# Altium integrated library Altium_WE-HCF_rev18a.IntLib: 50 symbols
Pins are listed as number, name and electrical type; pins without a type are passive.

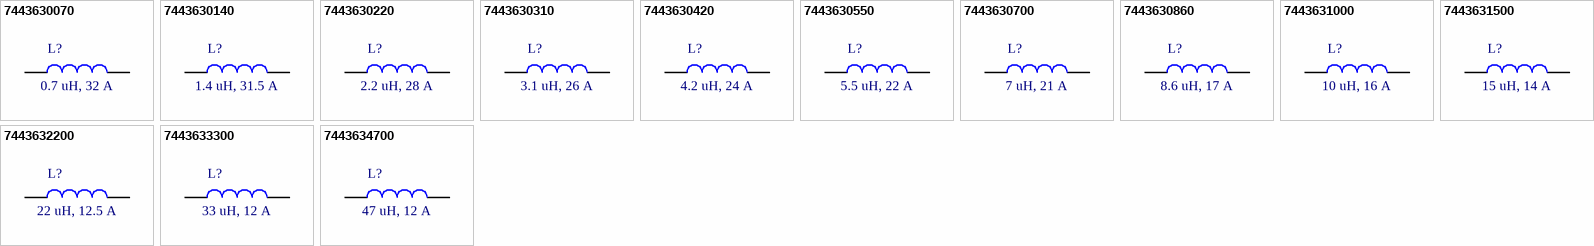
[diagram p0: symbols 7443630070 to 7443634700]

## 7443630070
designator L?, comment 0.7 uH, 32 A
SMT High Current Inductor WE-HCF, size 2013, 0.7 uH, 32 A; Part Number: 7443630070; Rated Current: 32 A; Inductance: 0.7 uH; DC Resistance max.: 0.91 mOhm; Self Resonant Frequency: 65 MHz; Saturation Current: 75 A; ComponentLink1Description: Manufacturer; ComponentLink1URL: http://www.we-online.de; ComponentLink2Description: Datasheet; ComponentLink2URL: https://katalog.we-online.de/pbs/datasheet/7443630070.pdf; Published Date: November 2018; Publisher: Wurth Elektronik; Size: 2013; Operating Temperature: -40 to 125 degC; Mounting Technology: SMT; Packaging: Tape and Reel
footprint WE-HCF_2013
pins: 1, 2

## 7443630140
designator L?, comment 1.4 uH, 31.5 A
SMT High Current Inductor WE-HCF, size 2013, 1.4 uH, 31.5 A; Part Number: 7443630140; Rated Current: 31.5 A; Inductance: 1.4 uH; DC Resistance max.: 1.19 mOhm; Self Resonant Frequency: 52 MHz; Saturation Current: 60 A; ComponentLink1Description: Manufacturer; ComponentLink1URL: http://www.we-online.de; ComponentLink2Description: Datasheet; ComponentLink2URL: https://katalog.we-online.de/pbs/datasheet/7443630140.pdf; Published Date: November 2018; Publisher: Wurth Elektronik; Size: 2013; Operating Temperature: -40 to 125 degC; Mounting Technology: SMT; Packaging: Tape and Reel
footprint WE-HCF_2013
pins: 1, 2

## 7443630220
designator L?, comment 2.2 uH, 28 A
SMT High Current Inductor WE-HCF, size 2013, 2.2 uH, 28 A; Part Number: 7443630220; Rated Current: 28 A; Inductance: 2.2 uH; DC Resistance max.: 1.65 mOhm; Self Resonant Frequency: 32 MHz; Saturation Current: 52 A; ComponentLink1Description: Manufacturer; ComponentLink1URL: http://www.we-online.de; ComponentLink2Description: Datasheet; ComponentLink2URL: https://katalog.we-online.de/pbs/datasheet/7443630220.pdf; Published Date: November 2018; Publisher: Wurth Elektronik; Size: 2013; Operating Temperature: -40 to 125 degC; Mounting Technology: SMT; Packaging: Tape and Reel
footprint WE-HCF_2013
pins: 1, 2

## 7443630310
designator L?, comment 3.1 uH, 26 A
SMT High Current Inductor WE-HCF, size 2013, 3.1 uH, 26 A; Part Number: 7443630310; Rated Current: 26 A; Inductance: 3.1 uH; DC Resistance max.: 2.3 mOhm; Self Resonant Frequency: 29 MHz; Saturation Current: 45 A; ComponentLink1Description: Manufacturer; ComponentLink1URL: http://www.we-online.de; ComponentLink2Description: Datasheet; ComponentLink2URL: https://katalog.we-online.de/pbs/datasheet/7443630310.pdf; Published Date: November 2018; Publisher: Wurth Elektronik; Size: 2013; Operating Temperature: -40 to 125 degC; Mounting Technology: SMT; Packaging: Tape and Reel
footprint WE-HCF_2013
pins: 1, 2

## 7443630420
designator L?, comment 4.2 uH, 24 A
SMT High Current Inductor WE-HCF, size 2013, 4.2 uH, 24 A; Part Number: 7443630420; Rated Current: 24 A; Inductance: 4.2 uH; DC Resistance max.: 3.34 mOhm; Self Resonant Frequency: 24 MHz; Saturation Current: 38 A; ComponentLink1Description: Manufacturer; ComponentLink1URL: http://www.we-online.de; ComponentLink2Description: Datasheet; ComponentLink2URL: https://katalog.we-online.de/pbs/datasheet/7443630420.pdf; Published Date: November 2018; Publisher: Wurth Elektronik; Size: 2013; Operating Temperature: -40 to 125 degC; Mounting Technology: SMT; Packaging: Tape and Reel
footprint WE-HCF_2013
pins: 1, 2

## 7443630550
designator L?, comment 5.5 uH, 22 A
SMT High Current Inductor WE-HCF, size 2013, 5.5 uH, 22 A; Part Number: 7443630550; Rated Current: 22 A; Inductance: 5.5 uH; DC Resistance max.: 4.4 mOhm; Self Resonant Frequency: 21 MHz; Saturation Current: 33 A; ComponentLink1Description: Manufacturer; ComponentLink1URL: http://www.we-online.de; ComponentLink2Description: Datasheet; ComponentLink2URL: https://katalog.we-online.de/pbs/datasheet/7443630550.pdf; Published Date: November 2018; Publisher: Wurth Elektronik; Size: 2013; Operating Temperature: -40 to 125 degC; Mounting Technology: SMT; Packaging: Tape and Reel
footprint WE-HCF_2013
pins: 1, 2

## 7443630700
designator L?, comment 7 uH, 21 A
SMT High Current Inductor WE-HCF, size 2013, 7 uH, 21 A; Part Number: 7443630700; Rated Current: 21 A; Inductance: 7 uH; DC Resistance max.: 6.17 mOhm; Self Resonant Frequency: 18 MHz; Saturation Current: 30 A; ComponentLink1Description: Manufacturer; ComponentLink1URL: http://www.we-online.de; ComponentLink2Description: Datasheet; ComponentLink2URL: https://katalog.we-online.de/pbs/datasheet/7443630700.pdf; Published Date: November 2018; Publisher: Wurth Elektronik; Size: 2013; Operating Temperature: -40 to 125 degC; Mounting Technology: SMT; Packaging: Tape and Reel
footprint WE-HCF_2013
pins: 1, 2

## 7443630860
designator L?, comment 8.6 uH, 17 A
SMT High Current Inductor WE-HCF, size 2013, 8.6 uH, 17 A; Part Number: 7443630860; Rated Current: 17 A; Inductance: 8.6 uH; DC Resistance max.: 7.91 mOhm; Self Resonant Frequency: 14 MHz; Saturation Current: 25 A; ComponentLink1Description: Manufacturer; ComponentLink1URL: http://www.we-online.de; ComponentLink2Description: Datasheet; ComponentLink2URL: https://katalog.we-online.de/pbs/datasheet/7443630860.pdf; Published Date: November 2018; Publisher: Wurth Elektronik; Size: 2013; Operating Temperature: -40 to 125 degC; Mounting Technology: SMT; Packaging: Tape and Reel
footprint WE-HCF_2013
pins: 1, 2

## 7443631000
designator L?, comment 10 uH, 16 A
SMT High Current Inductor WE-HCF, size 2013, 10 uH, 16 A; Part Number: 7443631000; Rated Current: 16 A; Inductance: 10 uH; DC Resistance max.: 8.76 mOhm; Self Resonant Frequency: 13 MHz; Saturation Current: 23 A; ComponentLink1Description: Manufacturer; ComponentLink1URL: http://www.we-online.de; ComponentLink2Description: Datasheet; ComponentLink2URL: https://katalog.we-online.de/pbs/datasheet/7443631000.pdf; Published Date: November 2018; Publisher: Wurth Elektronik; Size: 2013; Operating Temperature: -40 to 125 degC; Mounting Technology: SMT; Packaging: Tape and Reel
footprint WE-HCF_2013
pins: 1, 2

## 7443631500
designator L?, comment 15 uH, 14 A
SMT High Current Inductor WE-HCF, size 2013, 15 uH, 14 A; Part Number: 7443631500; Rated Current: 14 A; Inductance: 15 uH; DC Resistance max.: 9.57 mOhm; Self Resonant Frequency: 12.8 MHz; Saturation Current: 21 A; ComponentLink1Description: Manufacturer; ComponentLink1URL: http://www.we-online.de; ComponentLink2Description: Datasheet; ComponentLink2URL: https://katalog.we-online.de/pbs/datasheet/7443631500.pdf; Published Date: November 2018; Publisher: Wurth Elektronik; Size: 2013; Operating Temperature: -40 to 125 degC; Mounting Technology: SMT; Packaging: Tape and Reel
footprint WE-HCF_2013
pins: 1, 2

## 7443632200
designator L?, comment 22 uH, 12.5 A
SMT High Current Inductor WE-HCF, size 2013, 22 uH, 12.5 A; Part Number: 7443632200; Rated Current: 12.5 A; Inductance: 22 uH; DC Resistance max.: 11.72 mOhm; Self Resonant Frequency: 12.5 MHz; Saturation Current: 15 A; ComponentLink1Description: Manufacturer; ComponentLink1URL: http://www.we-online.de; ComponentLink2Description: Datasheet; ComponentLink2URL: https://katalog.we-online.de/pbs/datasheet/7443632200.pdf; Published Date: November 2018; Publisher: Wurth Elektronik; Size: 2013; Operating Temperature: -40 to 125 degC; Mounting Technology: SMT; Packaging: Tape and Reel
footprint WE-HCF_2013
pins: 1, 2

## 7443633300
designator L?, comment 33 uH, 12 A
SMT High Current Inductor WE-HCF, size 2013, 33 uH, 12 A; Part Number: 7443633300; Rated Current: 12 A; Inductance: 33 uH; DC Resistance max.: 12.54 mOhm; Self Resonant Frequency: 12 MHz; Saturation Current: 11 A; ComponentLink1Description: Manufacturer; ComponentLink1URL: http://www.we-online.de; ComponentLink2Description: Datasheet; ComponentLink2URL: https://katalog.we-online.de/pbs/datasheet/7443633300.pdf; Published Date: November 2018; Publisher: Wurth Elektronik; Size: 2013; Operating Temperature: -40 to 125 degC; Mounting Technology: SMT; Packaging: Tape and Reel
footprint WE-HCF_2013
pins: 1, 2

## 7443634700
designator L?, comment 47 uH, 12 A
SMT High Current Inductor WE-HCF, size 2013, 47 uH, 12 A; Part Number: 7443634700; Rated Current: 12 A; Inductance: 47 uH; DC Resistance max.: 13.42 mOhm; Self Resonant Frequency: 10 MHz; Saturation Current: 8.5 A; ComponentLink1Description: Manufacturer; ComponentLink1URL: http://www.we-online.de; ComponentLink2Description: Datasheet; ComponentLink2URL: https://katalog.we-online.de/pbs/datasheet/7443634700.pdf; Published Date: November 2018; Publisher: Wurth Elektronik; Size: 2013; Operating Temperature: -40 to 125 degC; Mounting Technology: SMT; Packaging: Tape and Reel
footprint WE-HCF_2013
pins: 1, 2


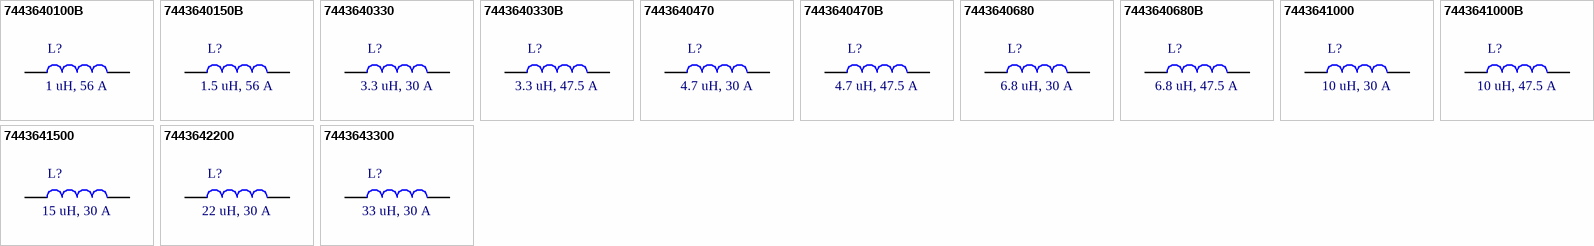
[diagram p1: symbols 7443640100B to 7443643300]

## 7443640100B
designator L?, comment 1 uH, 56 A
SMT High Current Inductor WE-HCF, size 2818, 1 uH, 56 A; Part Number: 7443640100B; Rated Current: 56 A; Inductance: 1 uH; DC Resistance max.: 0.48 mOhm; Self Resonant Frequency: 53.6 MHz; Saturation Current: 125 A; ComponentLink1Description: Manufacturer; ComponentLink1URL: http://www.we-online.de; ComponentLink2Description: Datasheet; ComponentLink2URL: https://katalog.we-online.de/pbs/datasheet/7443640100B.pdf; Published Date: November 2018; Publisher: Wurth Elektronik; Size: 2818; Operating Temperature: -40 to 125 degC; Mounting Technology: SMT; Packaging: Tape and Reel
footprint WE-HCF_2818
pins: 1, 2

## 7443640150B
designator L?, comment 1.5 uH, 56 A
SMT High Current Inductor WE-HCF, size 2818, 1.5 uH, 56 A; Part Number: 7443640150B; Rated Current: 56 A; Inductance: 1.5 uH; DC Resistance max.: 0.48 mOhm; Self Resonant Frequency: 37.6 MHz; Saturation Current: 91.8 A; ComponentLink1Description: Manufacturer; ComponentLink1URL: http://www.we-online.de; ComponentLink2Description: Datasheet; ComponentLink2URL: https://katalog.we-online.de/pbs/datasheet/7443640150B.pdf; Published Date: November 2018; Publisher: Wurth Elektronik; Size: 2818; Operating Temperature: -40 to 125 degC; Mounting Technology: SMT; Packaging: Tape and Reel
footprint WE-HCF_2818
pins: 1, 2

## 7443640330
designator L?, comment 3.3 uH, 30 A
SMT High Current Inductor WE-HCF, size 2818, 3.3 uH, 30 A; Part Number: 7443640330; Rated Current: 30 A; Inductance: 3.3 uH; DC Resistance max.: 2.64 mOhm; Self Resonant Frequency: 25 MHz; Saturation Current: >100 A; ComponentLink1Description: Manufacturer; ComponentLink1URL: http://www.we-online.de; ComponentLink2Description: Datasheet; ComponentLink2URL: https://katalog.we-online.de/pbs/datasheet/7443640330.pdf; Published Date: November 2018; Publisher: Wurth Elektronik; Size: 2818; Operating Temperature: -40 to 125 degC; Mounting Technology: SMT; Packaging: Tape and Reel
footprint WE-HCF_2818
pins: 1, 2

## 7443640330B
designator L?, comment 3.3 uH, 47.5 A
SMT High Current Inductor WE-HCF, size 2818, 3.3 uH, 47.5 A; Part Number: 7443640330B; Rated Current: 47.5 A; Inductance: 3.3 uH; DC Resistance max.: 0.97 mOhm; Self Resonant Frequency: 28.2 MHz; Saturation Current: 70 A; ComponentLink1Description: Manufacturer; ComponentLink1URL: http://www.we-online.de; ComponentLink2Description: Datasheet; ComponentLink2URL: https://katalog.we-online.de/pbs/datasheet/7443640330B.pdf; Published Date: November 2018; Publisher: Wurth Elektronik; Size: 2818; Operating Temperature: -40 to 125 degC; Mounting Technology: SMT; Packaging: Tape and Reel
footprint WE-HCF_2818
pins: 1, 2

## 7443640470
designator L?, comment 4.7 uH, 30 A
SMT High Current Inductor WE-HCF, size 2818, 4.7 uH, 30 A; Part Number: 7443640470; Rated Current: 30 A; Inductance: 4.7 uH; DC Resistance max.: 2.64 mOhm; Self Resonant Frequency: 20 MHz; Saturation Current: 78 A; ComponentLink1Description: Manufacturer; ComponentLink1URL: http://www.we-online.de; ComponentLink2Description: Datasheet; ComponentLink2URL: https://katalog.we-online.de/pbs/datasheet/7443640470.pdf; Published Date: November 2018; Publisher: Wurth Elektronik; Size: 2818; Operating Temperature: -40 to 125 degC; Mounting Technology: SMT; Packaging: Tape and Reel
footprint WE-HCF_2818
pins: 1, 2

## 7443640470B
designator L?, comment 4.7 uH, 47.5 A
SMT High Current Inductor WE-HCF, size 2818, 4.7 uH, 47.5 A; Part Number: 7443640470B; Rated Current: 47.5 A; Inductance: 4.7 uH; DC Resistance max.: 0.97 mOhm; Self Resonant Frequency: 22.6 MHz; Saturation Current: 49.5 A; ComponentLink1Description: Manufacturer; ComponentLink1URL: http://www.we-online.de; ComponentLink2Description: Datasheet; ComponentLink2URL: https://katalog.we-online.de/pbs/datasheet/7443640470B.pdf; Published Date: November 2018; Publisher: Wurth Elektronik; Size: 2818; Operating Temperature: -40 to 125 degC; Mounting Technology: SMT; Packaging: Tape and Reel
footprint WE-HCF_2818
pins: 1, 2

## 7443640680
designator L?, comment 6.8 uH, 30 A
SMT High Current Inductor WE-HCF, size 2818, 6.8 uH, 30 A; Part Number: 7443640680; Rated Current: 30 A; Inductance: 6.8 uH; DC Resistance max.: 2.64 mOhm; Self Resonant Frequency: 17 MHz; Saturation Current: 55 A; ComponentLink1Description: Manufacturer; ComponentLink1URL: http://www.we-online.de; ComponentLink2Description: Datasheet; ComponentLink2URL: https://katalog.we-online.de/pbs/datasheet/7443640680.pdf; Published Date: November 2018; Publisher: Wurth Elektronik; Size: 2818; Operating Temperature: -40 to 125 degC; Mounting Technology: SMT; Packaging: Tape and Reel
footprint WE-HCF_2818
pins: 1, 2

## 7443640680B
designator L?, comment 6.8 uH, 47.5 A
SMT High Current Inductor WE-HCF, size 2818, 6.8 uH, 47.5 A; Part Number: 7443640680B; Rated Current: 47.5 A; Inductance: 6.8 uH; DC Resistance max.: 0.97 mOhm; Self Resonant Frequency: 18.8 MHz; Saturation Current: 36.3 A; ComponentLink1Description: Manufacturer; ComponentLink1URL: http://www.we-online.de; ComponentLink2Description: Datasheet; ComponentLink2URL: https://katalog.we-online.de/pbs/datasheet/7443640680B.pdf; Published Date: November 2018; Publisher: Wurth Elektronik; Size: 2818; Operating Temperature: -40 to 125 degC; Mounting Technology: SMT; Packaging: Tape and Reel
footprint WE-HCF_2818
pins: 1, 2

## 7443641000
designator L?, comment 10 uH, 30 A
SMT High Current Inductor WE-HCF, size 2818, 10 uH, 30 A; Part Number: 7443641000; Rated Current: 30 A; Inductance: 10 uH; DC Resistance max.: 2.64 mOhm; Self Resonant Frequency: 13 MHz; Saturation Current: 37 A; ComponentLink1Description: Manufacturer; ComponentLink1URL: http://www.we-online.de; ComponentLink2Description: Datasheet; ComponentLink2URL: https://katalog.we-online.de/pbs/datasheet/7443641000.pdf; Published Date: November 2018; Publisher: Wurth Elektronik; Size: 2818; Operating Temperature: -40 to 125 degC; Mounting Technology: SMT; Packaging: Tape and Reel
footprint WE-HCF_2818
pins: 1, 2

## 7443641000B
designator L?, comment 10 uH, 47.5 A
SMT High Current Inductor WE-HCF, size 2818, 10 uH, 47.5 A; Part Number: 7443641000B; Rated Current: 47.5 A; Inductance: 10 uH; DC Resistance max.: 0.97 mOhm; Self Resonant Frequency: 15 MHz; Saturation Current: 25.1 A; ComponentLink1Description: Manufacturer; ComponentLink1URL: http://www.we-online.de; ComponentLink2Description: Datasheet; ComponentLink2URL: https://katalog.we-online.de/pbs/datasheet/7443641000B.pdf; Published Date: November 2018; Publisher: Wurth Elektronik; Size: 2818; Operating Temperature: -40 to 125 degC; Mounting Technology: SMT; Packaging: Tape and Reel
footprint WE-HCF_2818
pins: 1, 2

## 7443641500
designator L?, comment 15 uH, 30 A
SMT High Current Inductor WE-HCF, size 2818, 15 uH, 30 A; Part Number: 7443641500; Rated Current: 30 A; Inductance: 15 uH; DC Resistance max.: 2.64 mOhm; Self Resonant Frequency: 11 MHz; Saturation Current: 26 A; ComponentLink1Description: Manufacturer; ComponentLink1URL: http://www.we-online.de; ComponentLink2Description: Datasheet; ComponentLink2URL: https://katalog.we-online.de/pbs/datasheet/7443641500.pdf; Published Date: November 2018; Publisher: Wurth Elektronik; Size: 2818; Operating Temperature: -40 to 125 degC; Mounting Technology: SMT; Packaging: Tape and Reel
footprint WE-HCF_2818
pins: 1, 2

## 7443642200
designator L?, comment 22 uH, 30 A
SMT High Current Inductor WE-HCF, size 2818, 22 uH, 30 A; Part Number: 7443642200; Rated Current: 30 A; Inductance: 22 uH; DC Resistance max.: 2.64 mOhm; Self Resonant Frequency: 9 MHz; Saturation Current: 18 A; ComponentLink1Description: Manufacturer; ComponentLink1URL: http://www.we-online.de; ComponentLink2Description: Datasheet; ComponentLink2URL: https://katalog.we-online.de/pbs/datasheet/7443642200.pdf; Published Date: November 2018; Publisher: Wurth Elektronik; Size: 2818; Operating Temperature: -40 to 125 degC; Mounting Technology: SMT; Packaging: Tape and Reel
footprint WE-HCF_2818
pins: 1, 2

## 7443643300
designator L?, comment 33 uH, 30 A
SMT High Current Inductor WE-HCF, size 2818, 33 uH, 30 A; Part Number: 7443643300; Rated Current: 30 A; Inductance: 33 uH; DC Resistance max.: 2.64 mOhm; Self Resonant Frequency: 7 MHz; Saturation Current: 11.5 A; ComponentLink1Description: Manufacturer; ComponentLink1URL: http://www.we-online.de; ComponentLink2Description: Datasheet; ComponentLink2URL: https://katalog.we-online.de/pbs/datasheet/7443643300.pdf; Published Date: November 2018; Publisher: Wurth Elektronik; Size: 2818; Operating Temperature: -40 to 125 degC; Mounting Technology: SMT; Packaging: Tape and Reel
footprint WE-HCF_2818
pins: 1, 2


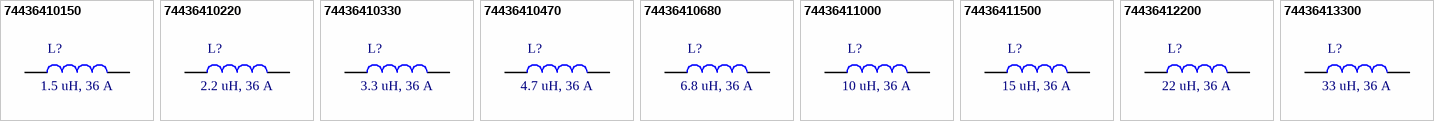
[diagram p2: symbols 74436410150 to 74436413300]

## 74436410150
designator L?, comment 1.5 uH, 36 A
SMT High Current Inductor WE-HCF, size 2815, 1.5 uH, 36 A; Part Number: 74436410150; Rated Current: 36 A; Inductance: 1.5 uH; DC Resistance max.: 1.44 mOhm; Self Resonant Frequency: 43.24 MHz; Saturation Current: 125 A; ComponentLink1Description: Manufacturer; ComponentLink1URL: http://www.we-online.de; ComponentLink2Description: Datasheet; ComponentLink2URL: https://katalog.we-online.de/pbs/datasheet/74436410150.pdf; Published Date: November 2018; Publisher: Wurth Elektronik; Size: 2815; Operating Temperature: -40 to 125 degC; Mounting Technology: SMT; Packaging: Tape and Reel
footprint WE-HCF_2815
pins: 1, 2

## 74436410220
designator L?, comment 2.2 uH, 36 A
SMT High Current Inductor WE-HCF, size 2815, 2.2 uH, 36 A; Part Number: 74436410220; Rated Current: 36 A; Inductance: 2.2 uH; DC Resistance max.: 1.44 mOhm; Self Resonant Frequency: 32.8 MHz; Saturation Current: 88.5 A; ComponentLink1Description: Manufacturer; ComponentLink1URL: http://www.we-online.de; ComponentLink2Description: Datasheet; ComponentLink2URL: https://katalog.we-online.de/pbs/datasheet/74436410220.pdf; Published Date: November 2018; Publisher: Wurth Elektronik; Size: 2815; Operating Temperature: -40 to 125 degC; Mounting Technology: SMT; Packaging: Tape and Reel
footprint WE-HCF_2815
pins: 1, 2

## 74436410330
designator L?, comment 3.3 uH, 36 A
SMT High Current Inductor WE-HCF, size 2815, 3.3 uH, 36 A; Part Number: 74436410330; Rated Current: 36 A; Inductance: 3.3 uH; DC Resistance max.: 1.44 mOhm; Self Resonant Frequency: 26.44 MHz; Saturation Current: 60.5 A; ComponentLink1Description: Manufacturer; ComponentLink1URL: http://www.we-online.de; ComponentLink2Description: Datasheet; ComponentLink2URL: https://katalog.we-online.de/pbs/datasheet/74436410330.pdf; Published Date: November 2018; Publisher: Wurth Elektronik; Size: 2815; Operating Temperature: -40 to 125 degC; Mounting Technology: SMT; Packaging: Tape and Reel
footprint WE-HCF_2815
pins: 1, 2

## 74436410470
designator L?, comment 4.7 uH, 36 A
SMT High Current Inductor WE-HCF, size 2815, 4.7 uH, 36 A; Part Number: 74436410470; Rated Current: 36 A; Inductance: 4.7 uH; DC Resistance max.: 1.44 mOhm; Self Resonant Frequency: 21.56 MHz; Saturation Current: 44 A; ComponentLink1Description: Manufacturer; ComponentLink1URL: http://www.we-online.de; ComponentLink2Description: Datasheet; ComponentLink2URL: https://katalog.we-online.de/pbs/datasheet/74436410470.pdf; Published Date: November 2018; Publisher: Wurth Elektronik; Size: 2815; Operating Temperature: -40 to 125 degC; Mounting Technology: SMT; Packaging: Tape and Reel
footprint WE-HCF_2815
pins: 1, 2

## 74436410680
designator L?, comment 6.8 uH, 36 A
SMT High Current Inductor WE-HCF, size 2815, 6.8 uH, 36 A; Part Number: 74436410680; Rated Current: 36 A; Inductance: 6.8 uH; DC Resistance max.: 1.44 mOhm; Self Resonant Frequency: 17.03 MHz; Saturation Current: 30 A; ComponentLink1Description: Manufacturer; ComponentLink1URL: http://www.we-online.de; ComponentLink2Description: Datasheet; ComponentLink2URL: https://katalog.we-online.de/pbs/datasheet/74436410680.pdf; Published Date: November 2018; Publisher: Wurth Elektronik; Size: 2815; Operating Temperature: -40 to 125 degC; Mounting Technology: SMT; Packaging: Tape and Reel
footprint WE-HCF_2815
pins: 1, 2

## 74436411000
designator L?, comment 10 uH, 36 A
SMT High Current Inductor WE-HCF, size 2815, 10 uH, 36 A; Part Number: 74436411000; Rated Current: 36 A; Inductance: 10 uH; DC Resistance max.: 1.44 mOhm; Self Resonant Frequency: 13.55 MHz; Saturation Current: 21.5 A; ComponentLink1Description: Manufacturer; ComponentLink1URL: http://www.we-online.de; ComponentLink2Description: Datasheet; ComponentLink2URL: https://katalog.we-online.de/pbs/datasheet/74436411000.pdf; Published Date: November 2018; Publisher: Wurth Elektronik; Size: 2815; Operating Temperature: -40 to 125 degC; Mounting Technology: SMT; Packaging: Tape and Reel
footprint WE-HCF_2815
pins: 1, 2

## 74436411500
designator L?, comment 15 uH, 36 A
SMT High Current Inductor WE-HCF, size 2815, 15 uH, 36 A; Part Number: 74436411500; Rated Current: 36 A; Inductance: 15 uH; DC Resistance max.: 1.44 mOhm; Self Resonant Frequency: 10.73 MHz; Saturation Current: 14.3 A; ComponentLink1Description: Manufacturer; ComponentLink1URL: http://www.we-online.de; ComponentLink2Description: Datasheet; ComponentLink2URL: https://katalog.we-online.de/pbs/datasheet/74436411500.pdf; Published Date: November 2018; Publisher: Wurth Elektronik; Size: 2815; Operating Temperature: -40 to 125 degC; Mounting Technology: SMT; Packaging: Tape and Reel
footprint WE-HCF_2815
pins: 1, 2

## 74436412200
designator L?, comment 22 uH, 36 A
SMT High Current Inductor WE-HCF, size 2815, 22 uH, 36 A; Part Number: 74436412200; Rated Current: 36 A; Inductance: 22 uH; DC Resistance max.: 1.44 mOhm; Self Resonant Frequency: 8.06 MHz; Saturation Current: 9.5 A; ComponentLink1Description: Manufacturer; ComponentLink1URL: http://www.we-online.de; ComponentLink2Description: Datasheet; ComponentLink2URL: https://katalog.we-online.de/pbs/datasheet/74436412200.pdf; Published Date: November 2018; Publisher: Wurth Elektronik; Size: 2815; Operating Temperature: -40 to 125 degC; Mounting Technology: SMT; Packaging: Tape and Reel
footprint WE-HCF_2815
pins: 1, 2

## 74436413300
designator L?, comment 33 uH, 36 A
SMT High Current Inductor WE-HCF, size 2815, 33 uH, 36 A; Part Number: 74436413300; Rated Current: 36 A; Inductance: 33 uH; DC Resistance max.: 1.44 mOhm; Self Resonant Frequency: 6.29 MHz; Saturation Current: 6 A; ComponentLink1Description: Manufacturer; ComponentLink1URL: http://www.we-online.de; ComponentLink2Description: Datasheet; ComponentLink2URL: https://katalog.we-online.de/pbs/datasheet/74436413300.pdf; Published Date: November 2018; Publisher: Wurth Elektronik; Size: 2815; Operating Temperature: -40 to 125 degC; Mounting Technology: SMT; Packaging: Tape and Reel
footprint WE-HCF_2815
pins: 1, 2


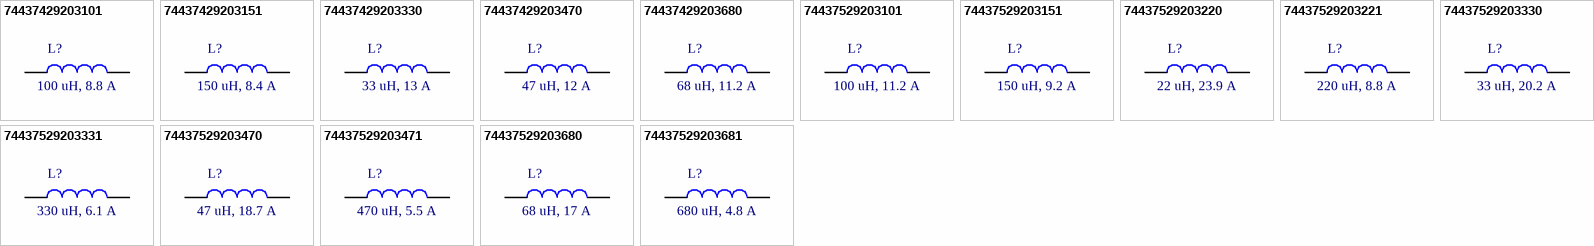
[diagram p3: symbols 74437429203101 to 74437529203681]

## 74437429203101
designator L?, comment 100 uH, 8.8 A
SMT High Current Inductor WE-HCF, size 2920, 100 uH, 8.8 A; Part Number: 74437429203101; Rated Current: 8.8 A; Inductance: 100 uH; DC Resistance max.: 39.49 mOhm; Self Resonant Frequency: 4.3 MHz; Saturation Current: 9.7 A; ComponentLink1Description: Manufacturer; ComponentLink1URL: http://www.we-online.de; ComponentLink2Description: Datasheet; ComponentLink2URL: https://katalog.we-online.de/pbs/datasheet/74437429203101.pdf; Published Date: November 2018; Publisher: Wurth Elektronik; Size: 2920; Operating Temperature: -40 to 125 degC; Mounting Technology: SMT; Packaging: Tape and Reel
footprint WE-HCF_2920_Litz
pins: 1, 2

## 74437429203151
designator L?, comment 150 uH, 8.4 A
SMT High Current Inductor WE-HCF, size 2920, 150 uH, 8.4 A; Part Number: 74437429203151; Rated Current: 8.4 A; Inductance: 150 uH; DC Resistance max.: 42.74 mOhm; Self Resonant Frequency: 3.8 MHz; Saturation Current: 7.8 A; ComponentLink1Description: Manufacturer; ComponentLink1URL: http://www.we-online.de; ComponentLink2Description: Datasheet; ComponentLink2URL: https://katalog.we-online.de/pbs/datasheet/74437429203151.pdf; Published Date: November 2018; Publisher: Wurth Elektronik; Size: 2920; Operating Temperature: -40 to 125 degC; Mounting Technology: SMT; Packaging: Tape and Reel
footprint WE-HCF_2920_Litz
pins: 1, 2

## 74437429203330
designator L?, comment 33 uH, 13 A
SMT High Current Inductor WE-HCF, size 2920, 33 uH, 13 A; Part Number: 74437429203330; Rated Current: 13 A; Inductance: 33 uH; DC Resistance max.: 16.83 mOhm; Self Resonant Frequency: 8 MHz; Saturation Current: 16.3 A; ComponentLink1Description: Manufacturer; ComponentLink1URL: http://www.we-online.de; ComponentLink2Description: Datasheet; ComponentLink2URL: https://katalog.we-online.de/pbs/datasheet/74437429203330.pdf; Published Date: November 2018; Publisher: Wurth Elektronik; Size: 2920; Operating Temperature: -40 to 125 degC; Mounting Technology: SMT; Packaging: Tape and Reel
footprint WE-HCF_2920_Litz
pins: 1, 2

## 74437429203470
designator L?, comment 47 uH, 12 A
SMT High Current Inductor WE-HCF, size 2920, 47 uH, 12 A; Part Number: 74437429203470; Rated Current: 12 A; Inductance: 47 uH; DC Resistance max.: 21.23 mOhm; Self Resonant Frequency: 7.5 MHz; Saturation Current: 13.5 A; ComponentLink1Description: Manufacturer; ComponentLink1URL: http://www.we-online.de; ComponentLink2Description: Datasheet; ComponentLink2URL: https://katalog.we-online.de/pbs/datasheet/74437429203470.pdf; Published Date: November 2018; Publisher: Wurth Elektronik; Size: 2920; Operating Temperature: -40 to 125 degC; Mounting Technology: SMT; Packaging: Tape and Reel
footprint WE-HCF_2920_Litz
pins: 1, 2

## 74437429203680
designator L?, comment 68 uH, 11.2 A
SMT High Current Inductor WE-HCF, size 2920, 68 uH, 11.2 A; Part Number: 74437429203680; Rated Current: 11.2 A; Inductance: 68 uH; DC Resistance max.: 24.42 mOhm; Self Resonant Frequency: 5.3 MHz; Saturation Current: 10.7 A; ComponentLink1Description: Manufacturer; ComponentLink1URL: http://www.we-online.de; ComponentLink2Description: Datasheet; ComponentLink2URL: https://katalog.we-online.de/pbs/datasheet/74437429203680.pdf; Published Date: November 2018; Publisher: Wurth Elektronik; Size: 2920; Operating Temperature: -40 to 125 degC; Mounting Technology: SMT; Packaging: Tape and Reel
footprint WE-HCF_2920_Litz
pins: 1, 2

## 74437529203101
designator L?, comment 100 uH, 11.2 A
SMT High Current Inductor WE-HCF, size 2920, 100 uH, 11.2 A; Part Number: 74437529203101; Rated Current: 11.2 A; Inductance: 100 uH; DC Resistance max.: 25.19 mOhm; Self Resonant Frequency: 4.3 MHz; Saturation Current: 9.4 A; ComponentLink1Description: Manufacturer; ComponentLink1URL: http://www.we-online.de; ComponentLink2Description: Datasheet; ComponentLink2URL: https://katalog.we-online.de/pbs/datasheet/74437529203101.pdf; Published Date: November 2018; Publisher: Wurth Elektronik; Size: 2920; Operating Temperature: -40 to 125 degC; Mounting Technology: SMT; Packaging: Tape and Reel
footprint WE-HCF_2920_Round
pins: 1, 2

## 74437529203151
designator L?, comment 150 uH, 9.2 A
SMT High Current Inductor WE-HCF, size 2920, 150 uH, 9.2 A; Part Number: 74437529203151; Rated Current: 9.2 A; Inductance: 150 uH; DC Resistance max.: 33.66 mOhm; Self Resonant Frequency: 3.2 MHz; Saturation Current: 7.2 A; ComponentLink1Description: Manufacturer; ComponentLink1URL: http://www.we-online.de; ComponentLink2Description: Datasheet; ComponentLink2URL: https://katalog.we-online.de/pbs/datasheet/74437529203151.pdf; Published Date: November 2018; Publisher: Wurth Elektronik; Size: 2920; Operating Temperature: -40 to 125 degC; Mounting Technology: SMT; Packaging: Tape and Reel
footprint WE-HCF_2920_Round
pins: 1, 2

## 74437529203220
designator L?, comment 22 uH, 23.9 A
SMT High Current Inductor WE-HCF, size 2920, 22 uH, 23.9 A; Part Number: 74437529203220; Rated Current: 23.9 A; Inductance: 22 uH; DC Resistance max.: 5.39 mOhm; Self Resonant Frequency: 9 MHz; Saturation Current: 21.7 A; ComponentLink1Description: Manufacturer; ComponentLink1URL: http://www.we-online.de; ComponentLink2Description: Datasheet; ComponentLink2URL: https://katalog.we-online.de/pbs/datasheet/74437529203220.pdf; Published Date: November 2018; Publisher: Wurth Elektronik; Size: 2920; Operating Temperature: -40 to 125 degC; Mounting Technology: SMT; Packaging: Tape and Reel
footprint WE-HCF_2920_Round
pins: 1, 2

## 74437529203221
designator L?, comment 220 uH, 8.8 A
SMT High Current Inductor WE-HCF, size 2920, 220 uH, 8.8 A; Part Number: 74437529203221; Rated Current: 8.8 A; Inductance: 220 uH; DC Resistance max.: 40.1 mOhm; Self Resonant Frequency: 2.8 MHz; Saturation Current: 5.3 A; ComponentLink1Description: Manufacturer; ComponentLink1URL: http://www.we-online.de; ComponentLink2Description: Datasheet; ComponentLink2URL: https://katalog.we-online.de/pbs/datasheet/74437529203221.pdf; Published Date: November 2018; Publisher: Wurth Elektronik; Size: 2920; Operating Temperature: -40 to 125 degC; Mounting Technology: SMT; Packaging: Tape and Reel
footprint WE-HCF_2920_Round
pins: 1, 2

## 74437529203330
designator L?, comment 33 uH, 20.2 A
SMT High Current Inductor WE-HCF, size 2920, 33 uH, 20.2 A; Part Number: 74437529203330; Rated Current: 20.2 A; Inductance: 33 uH; DC Resistance max.: 7.59 mOhm; Self Resonant Frequency: 7.1 MHz; Saturation Current: 15.4 A; ComponentLink1Description: Manufacturer; ComponentLink1URL: http://www.we-online.de; ComponentLink2Description: Datasheet; ComponentLink2URL: https://katalog.we-online.de/pbs/datasheet/74437529203330.pdf; Published Date: November 2018; Publisher: Wurth Elektronik; Size: 2920; Operating Temperature: -40 to 125 degC; Mounting Technology: SMT; Packaging: Tape and Reel
footprint WE-HCF_2920_Round
pins: 1, 2

## 74437529203331
designator L?, comment 330 uH, 6.1 A
SMT High Current Inductor WE-HCF, size 2920, 330 uH, 6.1 A; Part Number: 74437529203331; Rated Current: 6.1 A; Inductance: 330 uH; DC Resistance max.: 77.5 mOhm; Self Resonant Frequency: 2.4 MHz; Saturation Current: 4.3 A; ComponentLink1Description: Manufacturer; ComponentLink1URL: http://www.we-online.de; ComponentLink2Description: Datasheet; ComponentLink2URL: https://katalog.we-online.de/pbs/datasheet/74437529203331.pdf; Published Date: November 2018; Publisher: Wurth Elektronik; Size: 2920; Operating Temperature: -40 to 125 degC; Mounting Technology: SMT; Packaging: Tape and Reel
footprint WE-HCF_2920_Round
pins: 1, 2

## 74437529203470
designator L?, comment 47 uH, 18.7 A
SMT High Current Inductor WE-HCF, size 2920, 47 uH, 18.7 A; Part Number: 74437529203470; Rated Current: 18.7 A; Inductance: 47 uH; DC Resistance max.: 9.68 mOhm; Self Resonant Frequency: 6.7 MHz; Saturation Current: 13 A; ComponentLink1Description: Manufacturer; ComponentLink1URL: http://www.we-online.de; ComponentLink2Description: Datasheet; ComponentLink2URL: https://katalog.we-online.de/pbs/datasheet/74437529203470.pdf; Published Date: November 2018; Publisher: Wurth Elektronik; Size: 2920; Operating Temperature: -40 to 125 degC; Mounting Technology: SMT; Packaging: Tape and Reel
footprint WE-HCF_2920_Round
pins: 1, 2

## 74437529203471
designator L?, comment 470 uH, 5.5 A
SMT High Current Inductor WE-HCF, size 2920, 470 uH, 5.5 A; Part Number: 74437529203471; Rated Current: 5.5 A; Inductance: 470 uH; DC Resistance max.: 91.8 mOhm; Self Resonant Frequency: 1.7 MHz; Saturation Current: 3.7 A; ComponentLink1Description: Manufacturer; ComponentLink1URL: http://www.we-online.de; ComponentLink2Description: Datasheet; ComponentLink2URL: https://katalog.we-online.de/pbs/datasheet/74437529203471.pdf; Published Date: November 2018; Publisher: Wurth Elektronik; Size: 2920; Operating Temperature: -40 to 125 degC; Mounting Technology: SMT; Packaging: Tape and Reel
footprint WE-HCF_2920_Round
pins: 1, 2

## 74437529203680
designator L?, comment 68 uH, 17 A
SMT High Current Inductor WE-HCF, size 2920, 68 uH, 17 A; Part Number: 74437529203680; Rated Current: 17 A; Inductance: 68 uH; DC Resistance max.: 11.33 mOhm; Self Resonant Frequency: 5.7 MHz; Saturation Current: 10.6 A; ComponentLink1Description: Manufacturer; ComponentLink1URL: http://www.we-online.de; ComponentLink2Description: Datasheet; ComponentLink2URL: https://katalog.we-online.de/pbs/datasheet/74437529203680.pdf; Published Date: November 2018; Publisher: Wurth Elektronik; Size: 2920; Operating Temperature: -40 to 125 degC; Mounting Technology: SMT; Packaging: Tape and Reel
footprint WE-HCF_2920_Round
pins: 1, 2

## 74437529203681
designator L?, comment 680 uH, 4.8 A
SMT High Current Inductor WE-HCF, size 2920, 680 uH, 4.8 A; Part Number: 74437529203681; Rated Current: 4.8 A; Inductance: 680 uH; DC Resistance max.: 130.13 mOhm; Self Resonant Frequency: 1.1 MHz; Saturation Current: 3 A; ComponentLink1Description: Manufacturer; ComponentLink1URL: http://www.we-online.de; ComponentLink2Description: Datasheet; ComponentLink2URL: https://katalog.we-online.de/pbs/datasheet/74437529203681.pdf; Published Date: November 2018; Publisher: Wurth Elektronik; Size: 2920; Operating Temperature: -40 to 125 degC; Mounting Technology: SMT; Packaging: Tape and Reel
footprint WE-HCF_2920_Round
pins: 1, 2